# Altium footprint library Components - 30.01.24 - 14.28.PcbLib: 1 footprints
Each footprint in its own frame and in the unit in brackets; x right, y up, seen from the top. Pads: shape width x height; smd on the part's side, far side on the other; paste and mask are expansions set on the pad; w line width, h text height; cw(c..) or ccw(c..) is an arc to the next point about the centre after c.
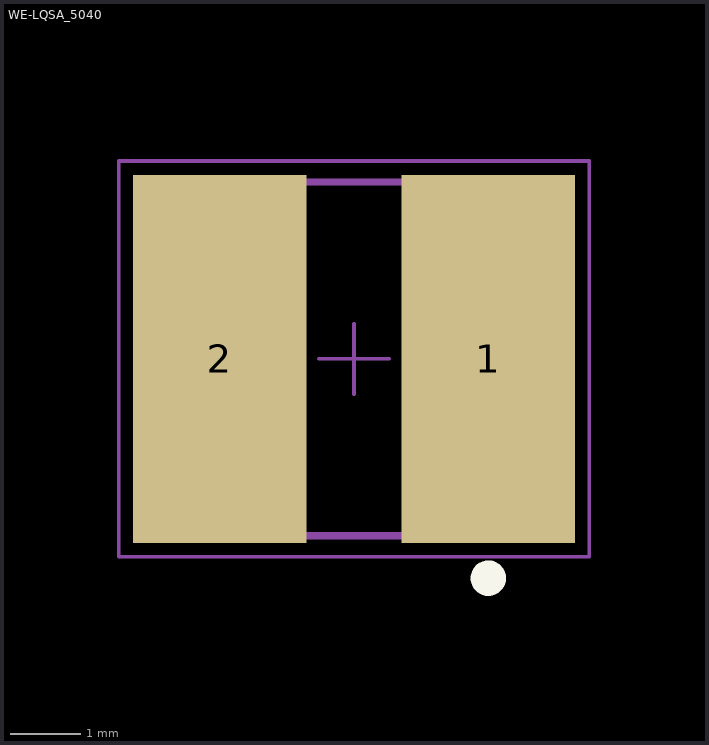
[diagram p0: the footprint, top view; thin cyan lines are the x and y axes]

## WE-LQSA_5040 [mm] "SMD Power Inductor, body 5.00x5.00mm"
height 4
pads (2):
  rect 2.45x5.2 smd: 1(-1268.1,-1270) 2(-1271.9,-1270)
Top Overlay:
  circle w0.25: c-1268.1,-1273.1 r0.125
Top Designator:
  text ".Designator" at -1274.998,-1270.333 h1
Top Component Outline:
  circle w0.1: c-1268.3,-1271.7 r0.3
  lines w0.1: -1272.5,-1272.5 -1272.5,-1267.5 -1267.5,-1267.5 -1267.5,-1272.5 -1272.5,-1272.5
Top 3D Body:
  circle w0.1: c-1268.3,-1271.7 r0.3
  lines w0.1: -1272.5,-1272.5 -1272.5,-1267.5 -1267.5,-1267.5 -1267.5,-1272.5 -1272.5,-1272.5
Top Courtyard:
  lines w0.05: -1270.5,-1270 -1269.5,-1270 ; -1270,-1270.5 -1270,-1269.5 ; -1273.325,-1272.8 -1273.325,-1267.2 -1266.675,-1267.2 -1266.675,-1272.8 -1273.325,-1272.8
3D body "78404054xxx_5040.stp": height 3.72, standoff 0.02, extent -1272.505,-1272.5 -1267.495,-1267.5